# Altium footprint library ABXS005S4X341-SRZ.PcbLib: 1 footprints
Each footprint in its own frame and in the unit in brackets; x right, y up, seen from the top. Pads: shape width x height; smd on the part's side, far side on the other; paste and mask are expansions set on the pad; w line width, h text height; cw(c..) or ccw(c..) is an arc to the next point about the centre after c.
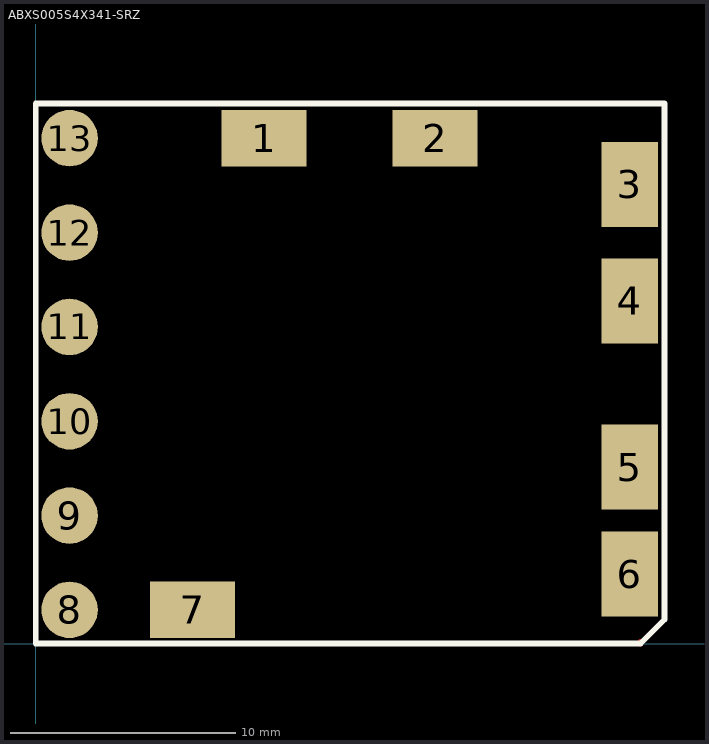
[diagram p0: the footprint, top view; thin cyan lines are the x and y axes]

## ABXS005S4X341-SRZ [mm]
pads (13):
  rect 3.78x2.51 smd: 1(10.15,22.46) 2(17.74,22.46) 7(6.97,1.5)
  rect 2.51x3.78 smd: 3(26.39,20.41) 4(26.39,15.23) 5(26.39,7.84) 6(26.39,3.09)
  round 2.51 smd: 8(1.5,1.5) 9(1.5,5.69) 10(1.5,9.88) 11(1.5,14.07) 12(1.5,18.26) 13(1.5,22.46)
Top Layer:
  lines w0.254: 26.87,0 26.87,0.073
Top Overlay:
  lines w0.254: 0,0 26.87,0 27.94,1.07 27.94,24 0,24 0,0